# EAGLE library part PIC16*F1826/27 (library microchip2)
18/20/28-Pin Flash Microcontrollers with nanoWatt XLP Technology Source: www.microchip.com PIC16F1827.pdf
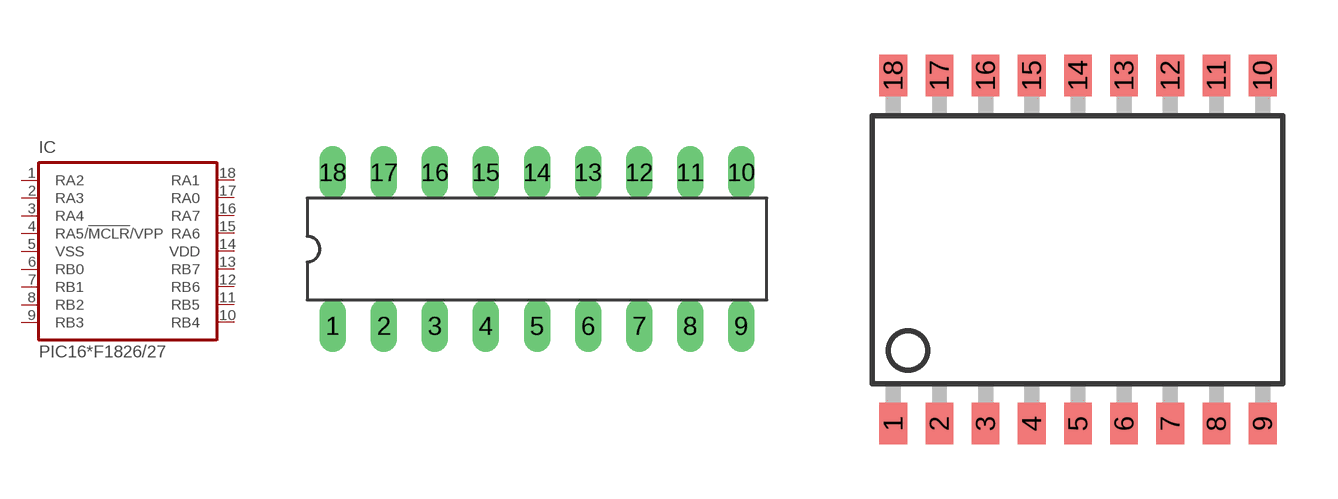
[diagram p140: symbol with the pads of DIL18; footprints DIL18, SO-18W]

Designator prefix IC

## PIC16F1826/27P, PIC16LF1826/27P  [DIL18]
1  RA2
2  RA3
3  RA4
4  RA5/!MCLR!/VPP
5  VSS  pwr
6  RB0
7  RB1
8  RB2
9  RB3
10  RB4
11  RB5
12  RB6
13  RB7
14  VDD  pwr
15  RA6
16  RA7
17  RA0
18  RA1

## PIC16F1826/27SO, PIC16LF1826/27SO  [SO-18W]
Pads as for DIL18

## PIC16F1826/27SS, PIC16LF1826/27SS  [SSOP20]
1  RA2
2  RA3
3  RA4
4  RA5/!MCLR!/VPP
5  VSS  pwr
6  VSS  pwr
7  RB0
8  RB1
9  RB2
10  RB3
11  RB4
12  RB5
13  RB6
14  RB7
15  VDD  pwr
16  VDD  pwr
17  RA6
18  RA7
19  RA0
20  RA1

## PIC16F1826/27ML, PIC16LF1826/27ML  [QFN28]
1  RA5/!MCLR!/VPP
3  VSS  pwr
5  VSS  pwr
7  RB0
8  RB1
9  RB2
10  RB3
12  RB4
13  RB5
15  RB6
16  RB7
17  VDD  pwr
19  VDD  pwr
20  RA6
21  RA7
23  RA0
24  RA1
26  RA2
27  RA3
28  RA4

## Footprint DIL18 (pad centres in mm)
Dual In Line package type P
drill 0.813 long: 1 -10.16,-3.81; 2 -7.62,-3.81; 3 -5.08,-3.81; 4 -2.54,-3.81; 5 0,-3.81; 6 2.54,-3.81; 7 5.08,-3.81; 8 7.62,-3.81; 9 10.16,-3.81; 10 10.16,3.81; 11 7.62,3.81; 12 5.08,3.81; 13 2.54,3.81; 14 0,3.81; 15 -2.54,3.81; 16 -5.08,3.81; 17 -7.62,3.81; 18 -10.16,3.81

## Footprint SO-18W (pad centres in mm)
Small Outline Wide Plastic Gull Wing 300-mil body, package type SO
smd 0.762 x 1.143: 1 -5.08,-4.788; 2 -3.81,-4.788; 3 -2.54,-4.788; 4 -1.27,-4.788; 5 0,-4.788; 6 1.27,-4.788; 7 2.54,-4.788; 8 3.81,-4.788; 9 5.08,-4.788; 10 5.08,4.788; 11 3.81,4.788; 12 2.54,4.788; 13 1.27,4.788; 14 0,4.788; 15 -1.27,4.788; 16 -2.54,4.788; 17 -3.81,4.788; 18 -5.08,4.788

## Footprint SSOP20 (pad centres in mm)
Shrink Small Outline Package package type SS
smd 0.4 x 1.5: 1 -2.925,-3.625; 2 -2.275,-3.625; 3 -1.625,-3.625; 4 -0.975,-3.625; 5 -0.325,-3.625; 6 0.325,-3.625; 7 0.975,-3.625; 8 1.625,-3.625; 9 2.275,-3.625; 10 2.925,-3.625; 11 2.925,3.625; 12 2.275,3.625; 13 1.625,3.625; 14 0.975,3.625; 15 0.325,3.625; 16 -0.325,3.625; 17 -0.975,3.625; 18 -1.625,3.625; 19 -2.275,3.625; 20 -2.925,3.625

## Footprint QFN28 (pad centres in mm)
28-Lead Plastic Quad Flat No Lead Package (ML) 6x6 mm Body, Punch Singulated (QFN) Source: ww1.microchip.com/downloads/en/DeviceDoc/39605c.pdf
smd 0.8 x 0.4: 1 -2.65,1.95; 2 -2.65,1.3; 3 -2.65,0.65; 4 -2.65,0; 5 -2.65,-0.65; 6 -2.65,-1.3; 7 -2.65,-1.95; 15 2.65,-1.95; 16 2.65,-1.3; 17 2.65,-0.65; 18 2.65,0; 19 2.65,0.65; 20 2.65,1.3; 21 2.65,1.95
smd 0.4 x 0.8: 8 -1.95,-2.65; 9 -1.3,-2.65; 10 -0.65,-2.65; 11 0,-2.65; 12 0.65,-2.65; 13 1.3,-2.65; 14 1.95,-2.65; 22 1.95,2.65; 23 1.3,2.65; 24 0.65,2.65; 25 0,2.65; 26 -0.65,2.65; 27 -1.3,2.65; 28 -1.95,2.65
smd 3.55 x 3.55: M 0,0
smd 0.17 x 0.4 rotated 45: R1 -2.525,2.525
smd 0.17 x 0.4 rotated 135: R2 -2.525,-2.525
smd 0.17 x 0.4 rotated 225: R3 2.525,-2.525
smd 0.17 x 0.4 rotated 315: R4 2.5,2.5